# EAGLE library part PIC10F200 (library MICROCHIP)
Microchip PIC10F200 The PIC10F200 device from Microchip Technology are low-cost, high-performance, 8-bit, fully-static, Flash-based CMOS microcontrollers. They employ a RISC architecture with only 33 single-word/ single-cycle instructions. All instructions are single cycle (1 s) except for program branches, which take two cycles. The PIC10F200 device deliver performance in an order of magnitude higher than their competitors in the same price category. The 12-bit wide instructions are highly symmetrical, resulting in a typical 2:1 code compression over other 8-bit microcontrollers in its class. The easy-to-use and easy to remember instruction set reduces development time significantly. Location: MCU/MICROCHIP
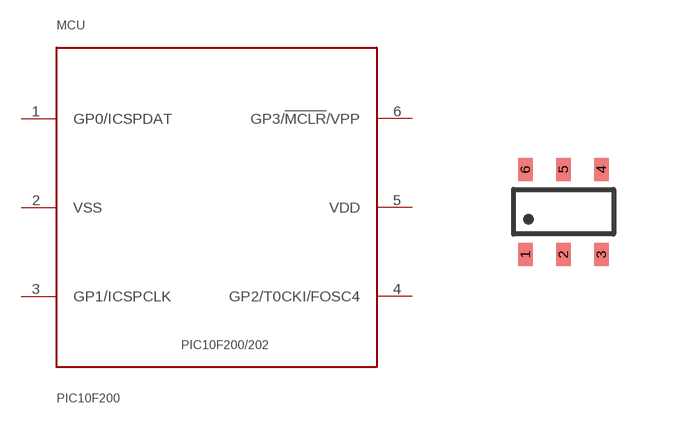
[diagram p0: symbol with the pads of SOT23-6; footprint SOT23-6]

Designator prefix MCU

## PIC10F200SMD  [SOT23-6]
1  GP0/ICSPDAT
2  VSS  pwr
3  GP1/ICSPCLK
4  GP2/T0CKI/FOSC4
5  VDD  pwr
6  GP3/!MCLR!/VPP

## Footprint SOT23-6 (pad centres in mm)
smd 0.355 x 0.575: 1 -0.95,-1.062; 2 0,-1.062; 3 0.95,-1.062; 4 0.95,1.062; 5 0,1.062; 6 -0.95,1.062